# Altium footprint library MPH252010C100MT.PcbLib: 1 footprints
Each footprint in its own frame and in the unit in brackets; x right, y up, seen from the top. Pads: shape width x height; smd on the part's side, far side on the other; paste and mask are expansions set on the pad; w line width, h text height; cw(c..) or ccw(c..) is an arc to the next point about the centre after c.
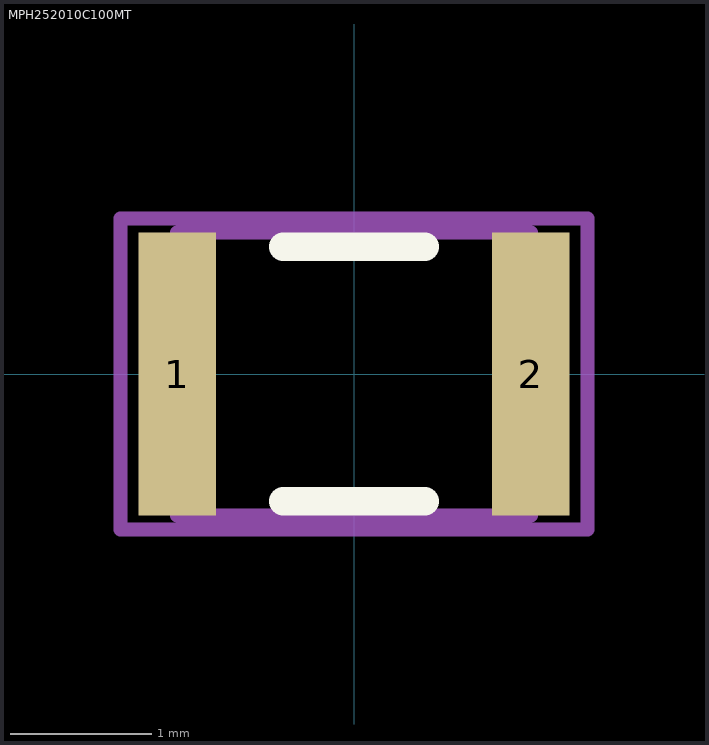
[diagram p0: the footprint, top view; thin cyan lines are the x and y axes]

## MPH252010C100MT [mm] "2-Leads, Body 2.50x2.00mm, IPC High 1.2mm"
height 1.2
pads (2):
  rect 0.55x2 smd: 1(-1.25,0) 2(1.25,0)
Top Overlay:
  lines w0.2: -0.5,-0.9 0.5,-0.9 ; -0.5,0.9 0.5,0.9
Mechanical 13:
  lines w0.1: -1.25,-1 -1.25,1 1.25,1 1.25,-1 -1.25,-1
Mechanical 15:
  lines w0.1: -1.65,-1.1 -1.65,1.1 1.65,1.1 1.65,-1.1 -1.65,-1.1
3D body: height 1.19, standoff -0.01, extent -1.25,-1 1.25,1